# Altium integrated library NSC Amplifier.IntLib: 733 symbols (part 17 of 19)
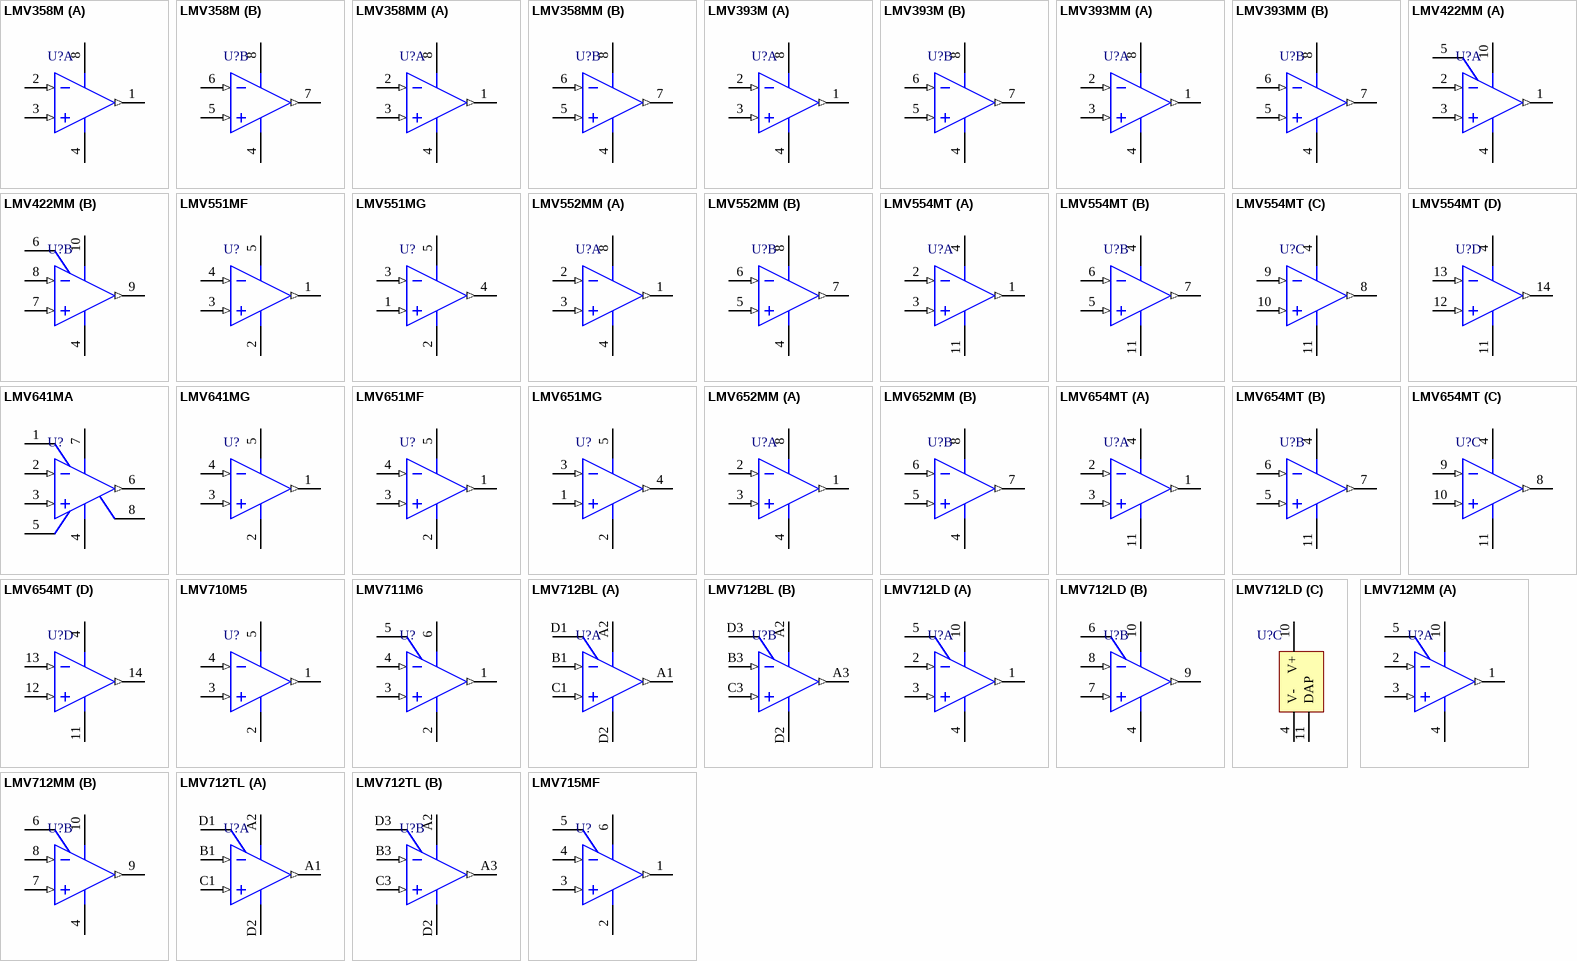
[diagram p55: symbols LMV358M to LMV715MF]

## LMV641MG
designator U?
10 MHz, 12V, Low Power Amplifier; PartNumber: LMV641MG; Manufacturer: National Semiconductor; CompType: Amplifiers; PackageTopMarking: A99*XTT; PowerWise: Y; Published: 4-Dec-2008; LatestRevisionDate: 13-Jan-2009; LatestRevisionNote: Sim Model Added.; DatasheetVersion: Sep-2007; PackageVersion: revD, Jun-2007; PackageReference: MAA05A; Publisher: Altium Limited; PackageDescription: Molded SC-70, 2 x 1.25 x .9mm, 5 Lead, 0.65mm Pitch; RoHS: Y; PinCount: 5; DigiKeyPartNumber: LMV641MGECT-ND; Code_JEITA: SC-88A; Code_JEDEC: MO-203-AA; Code_IPC: SOT353-5; ComponentLink1Description: LMV641 Datasheet; ComponentLink1URL: http://www.national.com/ds/LM/LMV641.pdf; ComponentLink2Description: LMV641 Web Page; ComponentLink2URL: http://www.national.com/pf/LM/LMV641.html; ComponentLink3Description: MAA05A Package Page; ComponentLink3URL: http://www.national.com/packaging/folders/maa05a.html
footprint MAA05A_N (SOT353, 5-Leads, Body 2x1.3mm, Pitch 0.65mm, Lead Span 2.1mm, IPC Medium Density)
footprint MAA05A_L (SOT353, 5-Leads, Body 2x1.3mm, Pitch 0.65mm, Lead Span 2.1mm, IPC High Density)
footprint MAA05A_M (SOT353, 5-Leads, Body 2x1.3mm, Pitch 0.65mm, Lead Span 2.1mm, IPC Low Density)
simulation model LMV641 (SUBCKT)
pins: 1 OUT (out), 2 V- (power), 3 IN+ (in), 4 IN- (in), 5 V+ (power)

## LMV651MF
designator U?
12 MHz, Low Voltage, Low Power Amplifier; PartNumber: LMV651MF; Manufacturer: National Semiconductor; CompType: Amplifiers; PackageTopMarking: AY2A*XTT; PowerWise: N; Published: 4-Dec-2008; LatestRevisionDate: 13-Jan-2009; LatestRevisionNote: Sim Model Added.; DatasheetVersion: Aug-2008; PackageVersion: revD, Aug-2008; PackageReference: MF05A; Publisher: Altium Limited; PackageDescription: Molded SOT-23, .115 x .063 x .040 in Body, 5 Lead, .0375 in Pitch; RoHS: Y; PinCount: 5; DigiKeyPartNumber: LMV651MFX-ND; Code_IPC: SOT23-5; ComponentLink1Description: LMV651 Datasheet; ComponentLink1URL: http://www.national.com/ds/LM/LMV651.pdf; ComponentLink2Description: LMV651 Web Page; ComponentLink2URL: http://www.national.com/pf/LM/LMV651.html; ComponentLink3Description: MF05A Package Page; ComponentLink3URL: http://www.national.com/packaging/folders/mf05a.html
footprint MF05A_N (SOT23, 5-Leads, Body 2.9x1.6mm, Pitch 0.95mm, Lead Span 2.8mm, IPC Medium Density)
footprint MF05A_L (SOT23, 5-Leads, Body 2.9x1.6mm, Pitch 0.95mm, Lead Span 2.8mm, IPC High Density)
footprint MF05A_M (SOT23, 5-Leads, Body 2.9x1.6mm, Pitch 0.95mm, Lead Span 2.8mm, IPC Low Density)
simulation model LMV651 (SUBCKT)
pins: 1 OUT (out), 2 V- (power), 3 IN+ (in), 4 IN- (in), 5 V+ (power)

## LMV651MG
designator U?
12 MHz, Low Voltage, Low Power Amplifier; PartNumber: LMV651MG; Manufacturer: National Semiconductor; CompType: Amplifiers; PackageTopMarking: A93*XTT; PowerWise: Y; Published: 4-Dec-2008; LatestRevisionDate: 13-Jan-2009; LatestRevisionNote: Sim Model Added.; DatasheetVersion: Aug-2008; PackageVersion: revD, Jun-2007; PackageReference: MAA05A; Publisher: Altium Limited; PackageDescription: Molded SC-70, 2 x 1.25 x .9mm, 5 Lead, 0.65mm Pitch; RoHS: O; PinCount: 5; DigiKeyPartNumber: LMV651MGCT-ND; Code_JEITA: SC-88A; Code_JEDEC: MO-203-AA; Code_IPC: SOT353-5; ComponentLink1Description: LMV651 Datasheet; ComponentLink1URL: http://www.national.com/ds/LM/LMV651.pdf; ComponentLink2Description: LMV651 Web Page; ComponentLink2URL: http://www.national.com/pf/LM/LMV651.html; ComponentLink3Description: MAA05A Package Page; ComponentLink3URL: http://www.national.com/packaging/folders/maa05a.html
footprint MAA05A_N (SOT353, 5-Leads, Body 2x1.3mm, Pitch 0.65mm, Lead Span 2.1mm, IPC Medium Density)
footprint MAA05A_L (SOT353, 5-Leads, Body 2x1.3mm, Pitch 0.65mm, Lead Span 2.1mm, IPC High Density)
footprint MAA05A_M (SOT353, 5-Leads, Body 2x1.3mm, Pitch 0.65mm, Lead Span 2.1mm, IPC Low Density)
simulation model LMV651 (SUBCKT)
pins: 1 IN+ (in), 2 V- (power), 3 IN- (in), 4 OUT (out), 5 V+ (power)

## LMV652MM
designator U?
12 MHz, Low Voltage, Low Power Amplifier; PartNumber: LMV652MM; Manufacturer: National Semiconductor; CompType: Amplifiers; PackageTopMarking: ZXTT*AB3A; PowerWise: Y; Published: 4-Dec-2008; LatestRevisionDate: 13-Jan-2009; LatestRevisionNote: Sim Model Added.; DatasheetVersion: Aug-2008; PackageVersion: revF, Apr-2008; PackageReference: MUA08A; Publisher: Altium Limited; PackageDescription: MINI SOIC, .118 x .118 x .034in, 8 Lead, .0256in Pitch; RoHS: Y; PinCount: 8; DigiKeyPartNumber: LMV652MMCT-ND; Code_JEDEC: MO-187-AA; ComponentLink1Description: LMV652 Datasheet; ComponentLink1URL: http://www.national.com/ds/LM/LMV652.pdf; ComponentLink2Description: LMV652 Web Page; ComponentLink2URL: http://www.national.com/pf/LM/LMV652.html; ComponentLink3Description: MUA08A Package Page; ComponentLink3URL: http://www.national.com/packaging/folders/mua08a.html
footprint MUA08A_N (TSOP, 8-Leads, Body 3x3mm, Pitch 0.65mm, IPC Medium Density)
footprint MUA08A_L (TSOP, 8-Leads, Body 3x3mm, Pitch 0.65mm, IPC High Density)
footprint MUA08A_M (TSOP, 8-Leads, Body 3x3mm, Pitch 0.65mm, IPC Low Density)
simulation model LMV652 (SUBCKT)
pins on every part: 4 V- (power), 8 V+ (power)
part A pins: 1 OUTA (out), 2 INA- (in), 3 INA+ (in)
part B pins: 5 INB+ (in), 6 INB- (in), 7 OUTB (out)

## LMV654MT
designator U?
12 MHz, Low Voltage, Low Power Amplifier; PartNumber: LMV654MT; Manufacturer: National Semiconductor; CompType: Amplifiers; PackageTopMarking: NSUZXYTT*LMV65*4MT; PowerWise: Y; Published: 4-Dec-2008; LatestRevisionDate: 13-Jan-2009; LatestRevisionNote: Sim Model Added.; DatasheetVersion: Aug-2008; PackageVersion: revD, Jun-2003; PackageReference: MTC14; Publisher: Altium Limited; PackageDescription: Molded TSSOP, JEDEC, 5 x 4.4 x 0.9mm Body, 14 Lead, 0.65mm Pitch; RoHS: O; PinCount: 14; DigiKeyPartNumber: LMV654MT-ND; Code_JEDEC: MO-153-AB-1; ComponentLink1Description: LMV654 Datasheet; ComponentLink1URL: http://www.national.com/ds/LM/LMV654.pdf; ComponentLink2Description: LMV654 Web Page; ComponentLink2URL: http://www.national.com/pf/LM/LMV654.html; ComponentLink3Description: MTC14 Package Page; ComponentLink3URL: http://www.national.com/packaging/folders/mtc14.html
footprint MTC14_N (TSOP, 14-Leads, Body 5x4.4mm, Pitch 0.65mm, IPC Medium Density)
footprint MTC14_L (TSOP, 14-Leads, Body 5x4.4mm, Pitch 0.65mm, IPC High Density)
footprint MTC14_M (TSOP, 14-Leads, Body 5x4.4mm, Pitch 0.65mm, IPC Low Density)
simulation model LMV654 (SUBCKT)
pins on every part: 4 V+ (power), 11 V- (power)
part A pins: 1 OUTA (out), 2 INA- (in), 3 INA+ (in)
part B pins: 5 INB+ (in), 6 INB- (in), 7 OUTB (out)
part C pins: 8 OUTC (out), 9 INC- (in), 10 INC+ (in)
part D pins: 12 IND+ (in), 13 IND- (in), 14 OUTD (out)

## LMV710M5
designator U?
Low Power, RRIO Operational Amplifiers with High Output Current Drive and Shutdown Option; PartNumber: LMV710M5; Manufacturer: National Semiconductor; PackageTopMarking: A48A*XTT; PowerWise: N; Published: 4-Dec-2008; LatestRevisionDate: 13-Jan-2009; LatestRevisionNote: Sim Model Added.; DatasheetVersion: Jun-2005; PackageVersion: revD, Aug-2008; PackageReference: MF05A; Publisher: Altium Limited; PackageDescription: Molded SOT-23, .115 x .063 x .040 in Body, 5 Lead, .0375 in Pitch; CompType: Amplifiers; RoHS: O; PinCount: 5; DigiKeyPartNumber: LMV710M5CT-ND; Code_IPC: SOT23-5; ComponentLink1Description: LMV710 Datasheet; ComponentLink1URL: http://www.national.com/ds/LM/LMV710.pdf; ComponentLink2Description: LMV710 Web Page; ComponentLink2URL: http://www.national.com/pf/LM/LMV710.html; ComponentLink3Description: MF05A Package Page; ComponentLink3URL: http://www.national.com/packaging/folders/mf05a.html
footprint MF05A_N (SOT23, 5-Leads, Body 2.9x1.6mm, Pitch 0.95mm, Lead Span 2.8mm, IPC Medium Density)
footprint MF05A_L (SOT23, 5-Leads, Body 2.9x1.6mm, Pitch 0.95mm, Lead Span 2.8mm, IPC High Density)
footprint MF05A_M (SOT23, 5-Leads, Body 2.9x1.6mm, Pitch 0.95mm, Lead Span 2.8mm, IPC Low Density)
simulation model LMV710 (SUBCKT)
pins: 1 OUT (out), 2 V- (power), 3 IN+ (in), 4 IN- (in), 5 V+ (power)

## LMV711M6
designator U?
Low Power, RRIO Operational Amplifiers with High Output Current Drive and Shutdown Option; PartNumber: LMV711M6; Manufacturer: National Semiconductor; PackageTopMarking: A47A*XTT; PowerWise: N; Published: 4-Dec-2008; LatestRevisionDate: 13-Jan-2009; LatestRevisionNote: Sim Model Added.; DatasheetVersion: Jun-2005; PackageVersion: revC, Sep-2005; PackageReference: MF06A; Publisher: Altium Limited; PackageDescription: Molded SOT-23, .115 x .063 x .040in Body, 6 Lead, .0375in in Pitch; CompType: Amplifiers; RoHS: O; PinCount: 6; DigiKeyPartNumber: LMV711M6CT-ND; Code_JEDEC: MO-178-AB; Code_IPC: SOT26A-6; ComponentLink1Description: LMV711 Datasheet; ComponentLink1URL: http://www.national.com/ds/LM/LMV711.pdf; ComponentLink2Description: LMV711 Web Page; ComponentLink2URL: http://www.national.com/pf/LM/LMV711.html; ComponentLink3Description: MF06A Package Page; ComponentLink3URL: http://www.national.com/packaging/folders/mf06a.html
footprint MF06A_N (SOT23, 6-Leads, Body 2.9x1.6mm, Pitch 0.95mm, Lead Span 2.8mm, IPC Medium Density)
footprint MF06A_L (SOT23, 6-Leads, Body 2.9x1.6mm, Pitch 0.95mm, Lead Span 2.8mm, IPC High Density)
footprint MF06A_M (SOT23, 6-Leads, Body 2.9x1.6mm, Pitch 0.95mm, Lead Span 2.8mm, IPC Low Density)
simulation model LMV711 (SUBCKT)
pins: 1 OUT (out), 2 V- (power), 3 IN+ (in), 4 IN- (in), 5 SHDN, 6 V+ (power)

## LMV712BL
designator U?
Low Power, Low Noise, High Output, RRIO Dual Operational Amplifier with Independent Shutdown; PartNumber: LMV712BL; Manufacturer: National Semiconductor; CompType: Amplifiers; PackageTopMarking: XYTT*I A76A; Published: 4-Dec-2008; LatestRevisionDate: 13-Jan-2009; LatestRevisionNote: Sim Model Added.; DatasheetVersion: Apr-2008; PackageVersion: revB, Feb-2002; PackageReference: BLP10AAB; Publisher: Altium Limited; PackageDescription: Micro SMD, 10 Bump (Large), Peripheral, 0.5mm Pitch; RoHS: N; PinCount: 10; DigiKeyPartNumber: LMV712BLCT-ND; Code_JEDEC: MO-211-BD; ComponentLink1Description: LMV712 Datasheet; ComponentLink1URL: http://www.national.com/ds/LM/LMV712.pdf; ComponentLink2Description: LMV712 Web Page; ComponentLink2URL: http://www.national.com/pf/LM/LMV712.html; ComponentLink3Description: BLP10AAB Package Page; ComponentLink3URL: http://www.national.com/packaging/folders/blp10aab.html
footprint BLP10AAB (Micro SMD, 10-Leads, Body 2.0x1.52mm, Pitch 0.5mm, NSC Recommended)
simulation model LMV711 (SUBCKT)
pins on every part: A2 V+ (power), D2 V- (power)
part A pins: A1 OUTA (out), B1 INA- (in), C1 INA+ (in), D1 SDA
part B pins: A3 OUTB (out), B3 INB- (in), C3 INB+ (in), D3 SDB

## LMV712LD
designator U?
Low Power, Low Noise, High Output, RRIO Dual Operational Amplifier with Independent Shutdown; PartNumber: LMV712LD; Manufacturer: National Semiconductor; CompType: Amplifiers; PackageTopMarking: ZXYTT*A62; PowerWise: N; Published: 4-Dec-2008; LatestRevisionDate: 13-Jan-2009; LatestRevisionNote: Sim Model Added.; DatasheetVersion: Apr-2008; PackageVersion: revB, Jan-2003; PackageReference: LDA10A; Publisher: Altium Limited; PackageDescription: LLP, Plastic, Dual, 3 x 3 x 0.75mm Body, 10 Lead, 0.5mm Pitch; RoHS: Y; PinCount: 10; DigiKeyPartNumber: LMV712LDCT-ND; ComponentLink1Description: LMV712 Datasheet; ComponentLink1URL: http://www.national.com/ds/LM/LMV712.pdf; ComponentLink2Description: LMV712 Web Page; ComponentLink2URL: http://www.national.com/pf/LM/LMV712.html; ComponentLink3Description: LDA10A Package Page; ComponentLink3URL: http://www.national.com/packaging/folders/lda10a.html
footprint LDA10A (PSON, 10-Leads, Body 3x3mm, Pitch 0.5mm, NSC Recommended)
simulation model LMV711 (SUBCKT)
pins on every part: 4 V- (power), 10 V+ (power)
part A pins: 1 OUTA (out), 2 INA- (in), 3 INA+ (in), 5 SDA
part B pins: 6 SDB, 7 INB+ (in), 8 INB- (in), 9 OUTB (out)
part C pins: 11 DAP

## LMV712MM
designator U?
Low Power, Low Noise, High Output, RRIO Dual Operational Amplifier with Independent Shutdown; PartNumber: LMV712MM; Manufacturer: National Semiconductor; CompType: Amplifiers; PackageTopMarking: ZXTT*A61; PowerWise: N; Published: 4-Dec-2008; LatestRevisionDate: 13-Jan-2009; LatestRevisionNote: Sim Model Added.; DatasheetVersion: Apr-2008; PackageVersion: revB, Jul-2003; PackageReference: MUB10A; Publisher: Altium Limited; PackageDescription: Mini-SO, Molded, .118 x .118 x .034in Body, 10 Lead, .0197in Pitch; RoHS: O; PinCount: 10; DigiKeyPartNumber: LMV712MMCT-ND; Code_JEDEC: MO-187-BA; ComponentLink1Description: LMV712 Datasheet; ComponentLink1URL: http://www.national.com/ds/LM/LMV712.pdf; ComponentLink2Description: LMV712 Web Page; ComponentLink2URL: http://www.national.com/pf/LM/LMV712.html; ComponentLink3Description: MUB10A Package Page; ComponentLink3URL: http://www.national.com/packaging/folders/mub10a.html
footprint MUB10A_N (TSSOP, 10-Leads, Body 3x3mm, Pitch 0.5mm, IPC Medium Density)
footprint MUB10A_L (TSSOP, 10-Leads, Body 3x3mm, Pitch 0.5mm, IPC High Density)
footprint MUB10A_M (TSSOP, 10-Leads, Body 3x3mm, Pitch 0.5mm, IPC Low Density)
simulation model LMV711 (SUBCKT)
pins on every part: 4 V- (power), 10 V+ (power)
part A pins: 1 OUTA (out), 2 INA- (in), 3 INA+ (in), 5 SDA
part B pins: 6 SDB, 7 INB+ (in), 8 INB- (in), 9 OUTB (out)

## LMV712TL
designator U?
Low Power, Low Noise, High Output, RRIO Dual Operational Amplifier with Independent Shutdown; PartNumber: LMV712TL; Manufacturer: National Semiconductor; CompType: Amplifiers; PackageTopMarking: XYTT*I AU2A; PowerWise: N; Published: 4-Dec-2008; LatestRevisionDate: 13-Jan-2009; LatestRevisionNote: Sim Model Added.; DatasheetVersion: Apr-2008; PackageVersion: revD, Mar-2004; PackageReference: TLP10BBA; Publisher: Altium Limited; PackageDescription: Thin Micro SMD, 10 Bump (Large), 0.5mm Pitch; RoHS: Y; PinCount: 10; DigiKeyPartNumber: LMV712TLCT-ND; Code_JEDEC: MO-211-BD; ComponentLink1Description: LMV712 Datasheet; ComponentLink1URL: http://www.national.com/ds/LM/LMV712.pdf; ComponentLink2Description: LMV712 Web Page; ComponentLink2URL: http://www.national.com/pf/LM/LMV712.html; ComponentLink3Description: TLP10BBA Package Page; ComponentLink3URL: http://www.national.com/packaging/folders/tlp10bba.html
footprint TLP10BBA (Micro SMD, 10-Leads, Body 2.02x1.54mm, Pitch 0.5mm, NSC Recommended)
simulation model LMV711 (SUBCKT)
pins on every part: A2 V+ (power), D2 V- (power)
part A pins: A1 OUTA (out), B1 INA- (in), C1 INA+ (in), D1 SDA
part B pins: A3 OUTB (out), B3 INB- (in), C3 INB+ (in), D3 SDB

## LMV715MF
designator U?
Low Power, RRIO Operational Amplifiers with High Output Current Drive and Shutdown Option; PartNumber: LMV715MF; Manufacturer: National Semiconductor; PackageTopMarking: A75A*XTT; Published: 4-Dec-2008; DatasheetVersion: Jun-2005; PackageVersion: revC, Sep-2005; PackageReference: MF06A; Publisher: Altium Limited; PackageDescription: Molded SOT-23, .115 x .063 x .040in Body, 6 Lead, .0375in in Pitch; CompType: Amplifiers; RoHS: Y; PinCount: 6; DigiKeyPartNumber: LMV715MFCT-ND; Code_JEDEC: MO-178-AB; Code_IPC: SOT26A-6; ComponentLink1Description: LMV715 Datasheet; ComponentLink1URL: http://www.national.com/ds/LM/LMV715.pdf; ComponentLink2Description: LMV715 Web Page; ComponentLink2URL: http://www.national.com/pf/LM/LMV715.html; ComponentLink3Description: MF06A Package Page; ComponentLink3URL: http://www.national.com/packaging/folders/mf06a.html
footprint MF06A_N (SOT23, 6-Leads, Body 2.9x1.6mm, Pitch 0.95mm, Lead Span 2.8mm, IPC Medium Density)
footprint MF06A_L (SOT23, 6-Leads, Body 2.9x1.6mm, Pitch 0.95mm, Lead Span 2.8mm, IPC High Density)
footprint MF06A_M (SOT23, 6-Leads, Body 2.9x1.6mm, Pitch 0.95mm, Lead Span 2.8mm, IPC Low Density)
pins: 1 OUT (out), 2 V- (power), 3 IN+ (in), 4 IN- (in), 5 SHDN, 6 V+ (power)

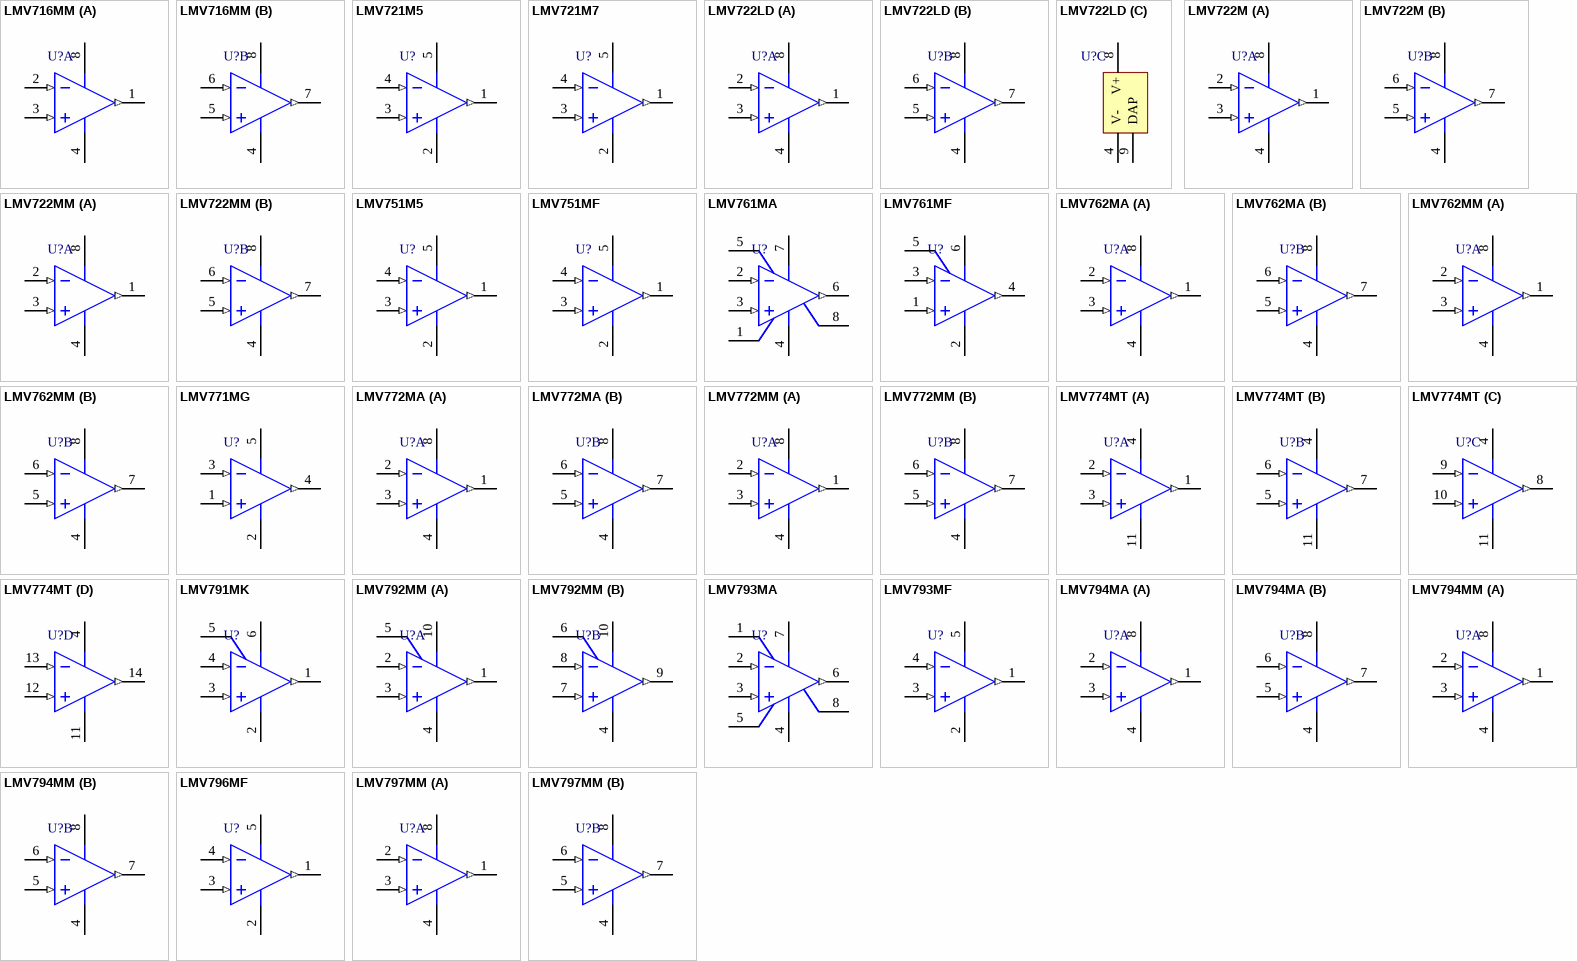
[diagram p35: symbols LMV716MM to LMV797MM]

## LMV716MM
designator U?
5 MHz, Low Noise Dual Operational Amplifiers, with CMOS Input; PartNumber: LMV716MM; Manufacturer: National Semiconductor; PackageTopMarking: ZXTT*AR3A; PowerWise: N; Published: 4-Dec-2008; LatestRevisionDate: 13-Jan-2009; LatestRevisionNote: Sim Model Added.; DatasheetVersion: Sep-2006; PackageVersion: revF, Apr-2008; PackageReference: MUA08A; Publisher: Altium Limited; PackageDescription: MINI SOIC, .118 x .118 x .034in, 8 Lead, .0256in Pitch; CompType: Amplifiers; RoHS: Y; PinCount: 8; DigiKeyPartNumber: LMV716MMCT-ND; Code_JEDEC: MO-187-AA; ComponentLink1Description: LMV716 Datasheet; ComponentLink1URL: http://www.national.com/ds/LM/LMV716.pdf; ComponentLink2Description: LMV716 Web Page; ComponentLink2URL: http://www.national.com/pf/LM/LMV716.html; ComponentLink3Description: MUA08A Package Page; ComponentLink3URL: http://www.national.com/packaging/folders/mua08a.html
footprint MUA08A_N (TSOP, 8-Leads, Body 3x3mm, Pitch 0.65mm, IPC Medium Density)
footprint MUA08A_L (TSOP, 8-Leads, Body 3x3mm, Pitch 0.65mm, IPC High Density)
footprint MUA08A_M (TSOP, 8-Leads, Body 3x3mm, Pitch 0.65mm, IPC Low Density)
simulation model LMV716 (SUBCKT)
pins on every part: 4 V- (power), 8 V+ (power)
part A pins: 1 OUTA (out), 2 INA- (in), 3 INA+ (in)
part B pins: 5 INB+ (in), 6 INB- (in), 7 OUTB (out)

## LMV721M5
designator U?
10MHz, Low Noise, Low Voltage, and Low Power Operational Amplifier; PartNumber: LMV721M5; Manufacturer: National Semiconductor; CompType: Amplifiers; PackageTopMarking: A30A*XTT; PowerWise: Y; Published: 4-Dec-2008; LatestRevisionDate: 13-Jan-2009; LatestRevisionNote: Sim Model Added.; DatasheetVersion: Jul-2008; PackageVersion: revD, Aug-2008; PackageReference: MF05A; Publisher: Altium Limited; PackageDescription: Molded SOT-23, .115 x .063 x .040 in Body, 5 Lead, .0375 in Pitch; RoHS: O; PinCount: 5; DigiKeyPartNumber: LMV721M5CT-ND; Code_IPC: SOT23-5; ComponentLink1Description: LMV721 Datasheet; ComponentLink1URL: http://www.national.com/ds/LM/LMV721.pdf; ComponentLink2Description: LMV721 Web Page; ComponentLink2URL: http://www.national.com/pf/LM/LMV721.html; ComponentLink3Description: MF05A Package Page; ComponentLink3URL: http://www.national.com/packaging/folders/mf05a.html
footprint MF05A_N (SOT23, 5-Leads, Body 2.9x1.6mm, Pitch 0.95mm, Lead Span 2.8mm, IPC Medium Density)
footprint MF05A_L (SOT23, 5-Leads, Body 2.9x1.6mm, Pitch 0.95mm, Lead Span 2.8mm, IPC High Density)
footprint MF05A_M (SOT23, 5-Leads, Body 2.9x1.6mm, Pitch 0.95mm, Lead Span 2.8mm, IPC Low Density)
simulation model LMV721 (SUBCKT)
pins: 1 OUT (out), 2 V- (power), 3 IN+ (in), 4 IN- (in), 5 V+ (power)

## LMV721M7
designator U?
10MHz, Low Noise, Low Voltage, and Low Power Operational Amplifier; PartNumber: LMV721M7; Manufacturer: National Semiconductor; CompType: Amplifiers; PackageTopMarking: A20*XTT; PowerWise: Y; Published: 4-Dec-2008; LatestRevisionDate: 13-Jan-2009; LatestRevisionNote: Sim Model Added.; DatasheetVersion: Jul-2008; PackageVersion: revD, Jun-2007; PackageReference: MAA05A; Publisher: Altium Limited; PackageDescription: Molded SC-70, 2 x 1.25 x .9mm, 5 Lead, 0.65mm Pitch; RoHS: O; PinCount: 5; DigiKeyPartNumber: LMV721M7CT-ND; Code_JEITA: SC-88A; Code_JEDEC: MO-203-AA; Code_IPC: SOT353-5; ComponentLink1Description: LMV721 Datasheet; ComponentLink1URL: http://www.national.com/ds/LM/LMV721.pdf; ComponentLink2Description: LMV721 Web Page; ComponentLink2URL: http://www.national.com/pf/LM/LMV721.html; ComponentLink3Description: MAA05A Package Page; ComponentLink3URL: http://www.national.com/packaging/folders/maa05a.html
footprint MAA05A_N (SOT353, 5-Leads, Body 2x1.3mm, Pitch 0.65mm, Lead Span 2.1mm, IPC Medium Density)
footprint MAA05A_L (SOT353, 5-Leads, Body 2x1.3mm, Pitch 0.65mm, Lead Span 2.1mm, IPC High Density)
footprint MAA05A_M (SOT353, 5-Leads, Body 2x1.3mm, Pitch 0.65mm, Lead Span 2.1mm, IPC Low Density)
simulation model LMV721 (SUBCKT)
pins: 1 OUT (out), 2 V- (power), 3 IN+ (in), 4 IN- (in), 5 V+ (power)

## LMV722LD
designator U?
10MHz, Low Noise, Low Voltage, and Low Power Operational Amplifier; PartNumber: LMV722LD; Manufacturer: National Semiconductor; CompType: Amplifiers; PackageTopMarking: XYTT*L22; Published: 4-Dec-2008; DatasheetVersion: Jul-2008; PackageVersion: revB, Jun-2003; PackageReference: LDA08C; Publisher: Altium Limited; PackageDescription: LLP, Plastic, Dual, 2.5 x 3 x 0.75mm, 8 Lead, 0.5mm Pitch; RoHS: O; PinCount: 8; DigiKeyPartNumber: LMV722LDCT-ND; Code_JEDEC: MO-229-WDED; ComponentLink1Description: LMV722 Datasheet; ComponentLink1URL: http://www.national.com/ds/LM/LMV722.pdf; ComponentLink2Description: LMV722 Web Page; ComponentLink2URL: http://www.national.com/pf/LM/LMV722.html; ComponentLink3Description: LDA08C Package Page; ComponentLink3URL: http://www.national.com/packaging/folders/lda08c.html
footprint LDA08C (PSON, 8-Leads, Body 2.5x3mm, Pitch 0.5mm, NSC Recommended)
pins on every part: 4 V- (power), 8 V+ (power)
part A pins: 1 OUTA (out), 2 INA- (in), 3 INA+ (in)
part B pins: 5 INB+ (in), 6 INB- (in), 7 OUTB (out)
part C pins: 9 DAP

## LMV722M
designator U?
10MHz, Low Noise, Low Voltage, and Low Power Operational Amplifier; PartNumber: LMV722M; Manufacturer: National Semiconductor; CompType: Amplifiers; PackageTopMarking: NSZXTT*LMV*722M; PowerWise: Y; Published: 4-Dec-2008; LatestRevisionDate: 13-Jan-2009; LatestRevisionNote: Sim Model Added.; DatasheetVersion: Jul-2008; PackageVersion: revL, Sep-2006; PackageReference: M08A; Publisher: Altium Limited; PackageDescription: SOIC Narrow, 4.9 x 3.9 x 1.45mm, 8 Lead, 1.27mm Pitch; RoHS: O; PinCount: 8; DigiKeyPartNumber: LMV722MMCT-ND; Code_JEDEC: MS-012-AA; Code_IPC: SOIC127P600-8; ComponentLink1Description: LMV722 Datasheet; ComponentLink1URL: http://www.national.com/ds/LM/LMV722.pdf; ComponentLink2Description: LMV722 Web Page; ComponentLink2URL: http://www.national.com/pf/LM/LMV722.html; ComponentLink3Description: M08A Package Page; ComponentLink3URL: http://www.national.com/packaging/folders/m08a.html
footprint M08A_N (SOIC, 8-Leads, Body 4.9x3.9mm, Pitch 1.27mm, IPC Medium Density)
footprint M08A_L (SOIC, 8-Leads, Body 4.9x3.9mm, Pitch 1.27mm, IPC High Density)
footprint M08A_M (SOIC, 8-Leads, Body 4.9x3.9mm, Pitch 1.27mm, IPC Low Density)
simulation model LMV721 (SUBCKT)
pins on every part: 4 V- (power), 8 V+ (power)
part A pins: 1 OUTA (out), 2 INA- (in), 3 INA+ (in)
part B pins: 5 INB+ (in), 6 INB- (in), 7 OUTB (out)

## LMV722MM
designator U?
10MHz, Low Noise, Low Voltage, and Low Power Operational Amplifier; PartNumber: LMV722MM; Manufacturer: National Semiconductor; CompType: Amplifiers; PackageTopMarking: ZXTT*V722; PowerWise: Y; Published: 4-Dec-2008; LatestRevisionDate: 13-Jan-2009; LatestRevisionNote: Sim Model Added.; DatasheetVersion: Jul-2008; PackageVersion: revF, Apr-2008; PackageReference: MUA08A; Publisher: Altium Limited; PackageDescription: MINI SOIC, .118 x .118 x .034in, 8 Lead, .0256in Pitch; RoHS: Y; PinCount: 8; DigiKeyPartNumber: LMV722MMCT-ND; Code_JEDEC: MO-187-AA; ComponentLink1Description: LMV722 Datasheet; ComponentLink1URL: http://www.national.com/ds/LM/LMV722.pdf; ComponentLink2Description: LMV722 Web Page; ComponentLink2URL: http://www.national.com/pf/LM/LMV722.html; ComponentLink3Description: MUA08A Package Page; ComponentLink3URL: http://www.national.com/packaging/folders/mua08a.html
footprint MUA08A_N (TSOP, 8-Leads, Body 3x3mm, Pitch 0.65mm, IPC Medium Density)
footprint MUA08A_L (TSOP, 8-Leads, Body 3x3mm, Pitch 0.65mm, IPC High Density)
footprint MUA08A_M (TSOP, 8-Leads, Body 3x3mm, Pitch 0.65mm, IPC Low Density)
simulation model LMV721 (SUBCKT)
pins on every part: 4 V- (power), 8 V+ (power)
part A pins: 1 OUTA (out), 2 INA- (in), 3 INA+ (in)
part B pins: 5 INB+ (in), 6 INB- (in), 7 OUTB (out)

## LMV751M5
designator U?
Low Noise, Low Vos, Single Op Amp; PartNumber: LMV751M5; Manufacturer: National Semiconductor; CompType: Amplifiers; PackageTopMarking: A32A*XTT; PowerWise: Y; Published: 29-May-2009; DatasheetVersion: Jul-2002; PackageVersion: revD, Aug-2008; PackageReference: MF05A; Publisher: Altium Limited; PackageDescription: Molded SOT-23, .115 x .063 x .040 in Body, 5 Lead, .0375 in Pitch; RoHS: O; PinCount: 5; DigiKeyPartNumber: LMV751M5CT-ND; ComponentLink1Description: LMV751 Datasheet; ComponentLink1URL: http://www.national.com/ds/LM/LMV751.pdf; ComponentLink2Description: LMV751 Web Page; ComponentLink2URL: http://www.national.com/mpf/LM/LMV751.html; ComponentLink3Description: MF05A Package Page; ComponentLink3URL: http://www.national.com/packaging/folders/mf05a.html
footprint MF05A_N (SOT23, 5-Leads, Body 2.9x1.6mm, Pitch 0.95mm, Lead Span 2.8mm, IPC Medium Density)
footprint MF05A_L (SOT23, 5-Leads, Body 2.9x1.6mm, Pitch 0.95mm, Lead Span 2.8mm, IPC High Density)
footprint MF05A_M (SOT23, 5-Leads, Body 2.9x1.6mm, Pitch 0.95mm, Lead Span 2.8mm, IPC Low Density)
simulation model LMV751 (SUBCKT)
pins: 1 OUT (out), 2 V- (power), 3 IN+ (in), 4 IN- (in), 5 V+ (power)

## LMV751MF
designator U?
Low Noise, Low Vos, Single Op Amp; PartNumber: LMV751M5; Manufacturer: National Semiconductor; CompType: Amplifiers; PackageTopMarking: A32A*XTT; Published: 4-Dec-2008; LatestRevisionDate: 13-Jan-2009; LatestRevisionNote: Sim Model Added.; DatasheetVersion: Jul-2002; PackageVersion: revD, Aug-2008; PackageReference: MF05A; Publisher: Altium Limited; PackageDescription: Molded SOT-23, .115 x .063 x .040 in Body, 5 Lead, .0375 in Pitch; RoHS: O; PinCount: 5; DigiKeyPartNumber: LMV751M5CT-ND; Code_IPC: SOT23-5; ComponentLink1Description: LMV751 Datasheet; ComponentLink1URL: http://www.national.com/ds/LM/LMV751.pdf; ComponentLink2Description: LMV751 Web Page; ComponentLink2URL: http://www.national.com/mpf/LM/LMV751.html; ComponentLink3Description: MF05A Package Page; ComponentLink3URL: http://www.national.com/packaging/folders/mf05a.html
footprint MF05A_N (SOT23, 5-Leads, Body 2.9x1.6mm, Pitch 0.95mm, Lead Span 2.8mm, IPC Medium Density)
footprint MF05A_L (SOT23, 5-Leads, Body 2.9x1.6mm, Pitch 0.95mm, Lead Span 2.8mm, IPC High Density)
footprint MF05A_M (SOT23, 5-Leads, Body 2.9x1.6mm, Pitch 0.95mm, Lead Span 2.8mm, IPC Low Density)
simulation model LMV751 (SUBCKT)
pins: 1 OUT (out), 2 V- (power), 3 IN+ (in), 4 IN- (in), 5 V+ (power)

## LMV761MA
designator U?
Low Voltage, Precision Comparator with Push-Pull Output; PartNumber: LMV761MA; Manufacturer: National Semiconductor; CompType: Amplifiers; PackageTopMarking: NSZXTT*LMV76*1MA; PowerWise: N; Published: 4-Dec-2008; DatasheetVersion: Jul-2002; PackageVersion: revL, Sep-2006; PackageReference: M08A; Publisher: Altium Limited; PackageDescription: SOIC Narrow, 4.9 x 3.9 x 1.45mm, 8 Lead, 1.27mm Pitch; RoHS: O; PinCount: 8; DigiKeyPartNumber: LMV761MA-ND; Code_JEDEC: MS-012-AA; Code_IPC: SOIC127P600-8; ComponentLink1Description: LMV761 Datasheet; ComponentLink1URL: http://www.national.com/ds/LM/LMV761.pdf; ComponentLink2Description: LMV761 Web Page; ComponentLink2URL: http://www.national.com/pf/LM/LMV761.html; ComponentLink3Description: M08A Package Page; ComponentLink3URL: http://www.national.com/packaging/folders/m08a.html
footprint M08A_N (SOIC, 8-Leads, Body 4.9x3.9mm, Pitch 1.27mm, IPC Medium Density)
footprint M08A_L (SOIC, 8-Leads, Body 4.9x3.9mm, Pitch 1.27mm, IPC High Density)
footprint M08A_M (SOIC, 8-Leads, Body 4.9x3.9mm, Pitch 1.27mm, IPC Low Density)
pins: 1 NC, 2 IN- (in), 3 IN+ (in), 4 V- (power), 5 ~{SD}, 6 OUT (out), 7 V+ (power), 8 NC

## LMV761MF
designator U?
Low Voltage, Precision Comparator with Push-Pull Output; PartNumber: LMV761MF; Manufacturer: National Semiconductor; CompType: Amplifiers; PackageTopMarking: C22A*XTT; PowerWise: N; Published: 4-Dec-2008; DatasheetVersion: Jul-2002; PackageVersion: revC, Sep-2005; PackageReference: MF06A; Publisher: Altium Limited; PackageDescription: Molded SOT-23, .115 x .063 x .040in Body, 6 Lead, .0375in in Pitch; RoHS: O; PinCount: 6; DigiKeyPartNumber: LMV761MFCT-ND; Code_JEDEC: MO-178-AB; Code_IPC: SOT26A-6; ComponentLink1Description: LMV761 Datasheet; ComponentLink1URL: http://www.national.com/ds/LM/LMV761.pdf; ComponentLink2Description: LMV761 Web Page; ComponentLink2URL: http://www.national.com/pf/LM/LMV761.html; ComponentLink3Description: MF06A Package Page; ComponentLink3URL: http://www.national.com/packaging/folders/mf06a.html
footprint MF06A_N (SOT23, 6-Leads, Body 2.9x1.6mm, Pitch 0.95mm, Lead Span 2.8mm, IPC Medium Density)
footprint MF06A_L (SOT23, 6-Leads, Body 2.9x1.6mm, Pitch 0.95mm, Lead Span 2.8mm, IPC High Density)
footprint MF06A_M (SOT23, 6-Leads, Body 2.9x1.6mm, Pitch 0.95mm, Lead Span 2.8mm, IPC Low Density)
pins: 1 IN+ (in), 2 V- (power), 3 IN- (in), 4 OUT (out), 5 ~{SD}, 6 V+ (power)

## LMV762MA
designator U?
Low Voltage, Precision Comparator with Push-Pull Output; PartNumber: LMV762MA; Manufacturer: National Semiconductor; CompType: Amplifiers; PackageTopMarking: NSZXTT*LMV7*62MA; PowerWise: N; Published: 4-Dec-2008; DatasheetVersion: Jul-2002; PackageVersion: revL, Sep-2006; PackageReference: M08A; Publisher: Altium Limited; PackageDescription: SOIC Narrow, 4.9 x 3.9 x 1.45mm, 8 Lead, 1.27mm Pitch; RoHS: O; PinCount: 8; DigiKeyPartNumber: LMV762MA-ND; Code_JEDEC: MS-012-AA; Code_IPC: SOIC127P600-8; ComponentLink1Description: LMV762 Datasheet; ComponentLink1URL: http://www.national.com/ds/LM/LMV762.pdf; ComponentLink2Description: LMV762 Web Page; ComponentLink2URL: http://www.national.com/pf/LM/LMV762.html; ComponentLink3Description: M08A Package Page; ComponentLink3URL: http://www.national.com/packaging/folders/m08a.html
footprint M08A_N (SOIC, 8-Leads, Body 4.9x3.9mm, Pitch 1.27mm, IPC Medium Density)
footprint M08A_L (SOIC, 8-Leads, Body 4.9x3.9mm, Pitch 1.27mm, IPC High Density)
footprint M08A_M (SOIC, 8-Leads, Body 4.9x3.9mm, Pitch 1.27mm, IPC Low Density)
pins on every part: 4 V- (power), 8 V+ (power)
part A pins: 1 OUTA (out), 2 INA- (in), 3 INA+ (in)
part B pins: 5 INB+ (in), 6 INB- (in), 7 OUTB (out)

## LMV762MM
designator U?
Low Voltage, Precision Comparator with Push-Pull Output; PartNumber: LMV762MM; Manufacturer: National Semiconductor; CompType: Amplifiers; PackageTopMarking: ZXTT*C23A; PowerWise: N; Published: 4-Dec-2008; DatasheetVersion: Jul-2002; PackageVersion: revF, Apr-2008; PackageReference: MUA08A; Publisher: Altium Limited; PackageDescription: MINI SOIC, .118 x .118 x .034in, 8 Lead, .0256in Pitch; RoHS: O; PinCount: 8; DigiKeyPartNumber: LMV762MMCT-ND; Code_JEDEC: MO-187-AA; ComponentLink1Description: LMV762 Datasheet; ComponentLink1URL: http://www.national.com/ds/LM/LMV762.pdf; ComponentLink2Description: LMV762 Web Page; ComponentLink2URL: http://www.national.com/pf/LM/LMV762.html; ComponentLink3Description: MUA08A Package Page; ComponentLink3URL: http://www.national.com/packaging/folders/mua08a.html
footprint MUA08A_N (TSOP, 8-Leads, Body 3x3mm, Pitch 0.65mm, IPC Medium Density)
footprint MUA08A_L (TSOP, 8-Leads, Body 3x3mm, Pitch 0.65mm, IPC High Density)
footprint MUA08A_M (TSOP, 8-Leads, Body 3x3mm, Pitch 0.65mm, IPC Low Density)
pins on every part: 4 V- (power), 8 V+ (power)
part A pins: 1 OUTA (out), 2 INA- (in), 3 INA+ (in)
part B pins: 5 INB+ (in), 6 INB- (in), 7 OUTB (out)

## LMV771MG
designator U?
Single/Dual/Quad, Low Offset, Low Noise, RRO Operational Amplifiers; PartNumber: LMV771MG; Manufacturer: National Semiconductor; PackageTopMarking: A75*XTT; PowerWise: N; Published: 4-Dec-2008; LatestRevisionDate: 13-Jan-2009; LatestRevisionNote: Sim Model Added.; DatasheetVersion: Aug-2008; PackageVersion: revD, Jun-2007; PackageReference: MAA05A; Publisher: Altium Limited; PackageDescription: Molded SC-70, 2 x 1.25 x .9mm, 5 Lead, 0.65mm Pitch; CompType: Amplifiers; RoHS: O; PinCount: 5; DigiKeyPartNumber: LMV771MGCT-ND; Code_JEITA: SC-88A; Code_JEDEC: MO-203-AA; Code_IPC: SOT353-5; ComponentLink1Description: LMV771 Datasheet; ComponentLink1URL: http://www.national.com/ds/LM/LMV771.pdf; ComponentLink2Description: LMV771 Web Page; ComponentLink2URL: http://www.national.com/pf/LM/LMV771.html; ComponentLink3Description: MAA05A Package Page; ComponentLink3URL: http://www.national.com/packaging/folders/maa05a.html
footprint MAA05A_N (SOT353, 5-Leads, Body 2x1.3mm, Pitch 0.65mm, Lead Span 2.1mm, IPC Medium Density)
footprint MAA05A_L (SOT353, 5-Leads, Body 2x1.3mm, Pitch 0.65mm, Lead Span 2.1mm, IPC High Density)
footprint MAA05A_M (SOT353, 5-Leads, Body 2x1.3mm, Pitch 0.65mm, Lead Span 2.1mm, IPC Low Density)
simulation model LMV771 (SUBCKT)
pins: 1 IN+ (in), 2 GND (power), 3 IN- (in), 4 OUT (out), 5 V+ (power)

## LMV772MA
designator U?
Single/Dual/Quad, Low Offset, Low Noise, RRO Operational Amplifiers; PartNumber: LMV772MA; Manufacturer: National Semiconductor; PackageTopMarking: NSZXTT*LMV7*72MA; PowerWise: N; Published: 4-Dec-2008; LatestRevisionDate: 13-Jan-2009; LatestRevisionNote: Sim Model Added.; DatasheetVersion: Aug-2008; PackageVersion: revL, Sep-2006; PackageReference: M08A; Publisher: Altium Limited; PackageDescription: SOIC Narrow, 4.9 x 3.9 x 1.45mm, 8 Lead, 1.27mm Pitch; CompType: Amplifiers; RoHS: Y; PinCount: 8; DigiKeyPartNumber: LMV772MA-ND; Code_JEDEC: MS-012-AA; Code_IPC: SOIC127P600-8; ComponentLink1Description: LMV772 Datasheet; ComponentLink1URL: http://www.national.com/ds/LM/LMV772.pdf; ComponentLink2Description: LMV772 Web Page; ComponentLink2URL: http://www.national.com/pf/LM/LMV772.html; ComponentLink3Description: M08A Package Page; ComponentLink3URL: http://www.national.com/packaging/folders/m08a.html
footprint M08A_N (SOIC, 8-Leads, Body 4.9x3.9mm, Pitch 1.27mm, IPC Medium Density)
footprint M08A_L (SOIC, 8-Leads, Body 4.9x3.9mm, Pitch 1.27mm, IPC High Density)
footprint M08A_M (SOIC, 8-Leads, Body 4.9x3.9mm, Pitch 1.27mm, IPC Low Density)
simulation model LMV771 (SUBCKT)
pins on every part: 4 V- (power), 8 V+ (power)
part A pins: 1 OUTA (out), 2 INA- (in), 3 INA+ (in)
part B pins: 5 INB+ (in), 6 INB- (in), 7 OUTB (out)

## LMV772MM
designator U?
Single/Dual/Quad, Low Offset, Low Noise, RRO Operational Amplifiers; PartNumber: LMV772MM; Manufacturer: National Semiconductor; PackageTopMarking: ZXTT*A91A; PowerWise: N; Published: 4-Dec-2008; LatestRevisionDate: 13-Jan-2009; LatestRevisionNote: Sim Model Added.; DatasheetVersion: Aug-2008; PackageVersion: revF, Apr-2008; PackageReference: MUA08A; Publisher: Altium Limited; PackageDescription: MINI SOIC, .118 x .118 x .034in, 8 Lead, .0256in Pitch; CompType: Amplifiers; RoHS: Y; PinCount: 8; DigiKeyPartNumber: LMV772MMCT-ND; Code_JEDEC: MO-187-AA; ComponentLink1Description: LMV772 Datasheet; ComponentLink1URL: http://www.national.com/ds/LM/LMV772.pdf; ComponentLink2Description: LMV772 Web Page; ComponentLink2URL: http://www.national.com/pf/LM/LMV772.html; ComponentLink3Description: MUA08A Package Page; ComponentLink3URL: http://www.national.com/packaging/folders/mua08a.html
footprint MUA08A_N (TSOP, 8-Leads, Body 3x3mm, Pitch 0.65mm, IPC Medium Density)
footprint MUA08A_L (TSOP, 8-Leads, Body 3x3mm, Pitch 0.65mm, IPC High Density)
footprint MUA08A_M (TSOP, 8-Leads, Body 3x3mm, Pitch 0.65mm, IPC Low Density)
simulation model LMV771 (SUBCKT)
pins on every part: 4 V- (power), 8 V+ (power)
part A pins: 1 OUTA (out), 2 INA- (in), 3 INA+ (in)
part B pins: 5 INB+ (in), 6 INB- (in), 7 OUTB (out)

## LMV774MT
designator U?
Single/Dual/Quad, Low Offset, Low Noise, RRO Operational Amplifiers; PartNumber: LMV774MT; Manufacturer: National Semiconductor; PackageTopMarking: NSZXYTT*LMV77*4MT; PowerWise: N; Published: 4-Dec-2008; LatestRevisionDate: 13-Jan-2009; LatestRevisionNote: Sim Model Added.; DatasheetVersion: Aug-2008; PackageVersion: revD, Jun-2003; PackageReference: MTC14; Publisher: Altium Limited; PackageDescription: Molded TSSOP, JEDEC, 5 x 4.4 x 0.9mm Body, 14 Lead, 0.65mm Pitch; CompType: Amplifiers; RoHS: Y; PinCount: 14; DigiKeyPartNumber: LMV774MT-ND; Code_JEDEC: MO-153-AB-1; ComponentLink1Description: LMV774 Datasheet; ComponentLink1URL: http://www.national.com/ds/LM/LMV774.pdf; ComponentLink2Description: LMV774 Web Page; ComponentLink2URL: http://www.national.com/pf/LM/LMV774.html; ComponentLink3Description: MTC14 Package Page; ComponentLink3URL: http://www.national.com/packaging/folders/mtc14.html
footprint MTC14_N (TSOP, 14-Leads, Body 5x4.4mm, Pitch 0.65mm, IPC Medium Density)
footprint MTC14_L (TSOP, 14-Leads, Body 5x4.4mm, Pitch 0.65mm, IPC High Density)
footprint MTC14_M (TSOP, 14-Leads, Body 5x4.4mm, Pitch 0.65mm, IPC Low Density)
simulation model LMV771 (SUBCKT)
pins on every part: 4 V+ (power), 11 V- (power)
part A pins: 1 OUTA (out), 2 INA- (in), 3 INA+ (in)
part B pins: 5 INB+ (in), 6 INB- (in), 7 OUTB (out)
part C pins: 8 OUTC (out), 9 INC- (in), 10 INC+ (in)
part D pins: 12 IND+ (in), 13 IND- (in), 14 OUTD (out)

## LMV791MK
designator U?
17 MHz, Low Noise, CMOS Input, 1.8V Operational Amplifiers with Shutdown; PartNumber: LMV791MK; Manufacturer: National Semiconductor; PackageTopMarking: AS1A*XTT; PowerWise: Y; Published: 4-Dec-2008; LatestRevisionDate: 13-Jan-2009; LatestRevisionNote: Sim Model Added.; DatasheetVersion: Jun-2008; PackageVersion: revD, Jul-2005; PackageReference: MK06A; Publisher: Altium Limited; PackageDescription: Molded TSOT, 2.97 x 1.65 x 0.87mm Body, 6 Lead, 0.95mm Pitch; CompType: Amplifiers; RoHS: Y; PinCount: 6; DigiKeyPartNumber: LMV791MKCT-ND; Code_JEDEC: MO-193-AA; Code_IPC: SOT26A-6; ComponentLink1Description: LMV791 Datasheet; ComponentLink1URL: http://www.national.com/ds/LM/LMV791.pdf; ComponentLink2Description: LMV791 Web Page; ComponentLink2URL: http://www.national.com/pf/LM/LMV791.html; ComponentLink3Description: MK06A Package Page; ComponentLink3URL: http://www.national.com/packaging/folders/mk06a.html
footprint MK06A_N (SOT23, 6-Leads, Body 3.0x1.7mm, Pitch 0.95mm, Lead Span 2.9mm, IPC Medium Density)
footprint MK06A_L (SOT23, 6-Leads, Body 3.0x1.7mm, Pitch 0.95mm, Lead Span 2.9mm, IPC High Density)
footprint MK06A_M (SOT23, 6-Leads, Body 3.0x1.7mm, Pitch 0.95mm, Lead Span 2.9mm, IPC Low Density)
simulation model LMV791 (SUBCKT)
pins: 1 OUT (out), 2 V- (power), 3 IN+ (in), 4 IN- (in), 5 EN, 6 V+ (power)

## LMV792MM
designator U?
17 MHz, Low Noise, CMOS Input, 1.8V Operational Amplifiers with Shutdown; PartNumber: LMV792MM; Manufacturer: National Semiconductor; PackageTopMarking: ZXTT*AX2A; PowerWise: Y; Published: 4-Dec-2008; LatestRevisionDate: 13-Jan-2009; LatestRevisionNote: Sim Model Added.; DatasheetVersion: Jun-2008; PackageVersion: revB, Jul-2003; PackageReference: MUB10A; Publisher: Altium Limited; PackageDescription: Mini-SO, Molded, .118 x .118 x .034in Body, 10 Lead, .0197in Pitch; CompType: Amplifiers; RoHS: Y; PinCount: 10; DigiKeyPartNumber: LMV792MMCT-ND; Code_JEDEC: MO-187-BA; ComponentLink1Description: LMV792 Datasheet; ComponentLink1URL: http://www.national.com/ds/LM/LMV792.pdf; ComponentLink2Description: LMV792 Web Page; ComponentLink2URL: http://www.national.com/pf/LM/LMV792.html; ComponentLink3Description: MUB10A Package Page; ComponentLink3URL: http://www.national.com/packaging/folders/mub10a.html
footprint MUB10A_N (TSSOP, 10-Leads, Body 3x3mm, Pitch 0.5mm, IPC Medium Density)
footprint MUB10A_L (TSSOP, 10-Leads, Body 3x3mm, Pitch 0.5mm, IPC High Density)
footprint MUB10A_M (TSSOP, 10-Leads, Body 3x3mm, Pitch 0.5mm, IPC Low Density)
simulation model LMV792 (SUBCKT)
pins on every part: 4 V- (power), 10 V+ (power)
part A pins: 1 OUTA (out), 2 INA- (in), 3 INA+ (in), 5 ENA
part B pins: 6 ENB, 7 INB+ (in), 8 INB- (in), 9 OUTB (out)

## LMV793MA
designator U?
88 MHz, Low Noise, 1.8V CMOS Input, Decompensated Operational Amplifiers; PartNumber: LMV793MA; Manufacturer: National Semiconductor; PackageTopMarking: NSZXTT*LMV7*93MA; PowerWise: Y; Published: 4-Dec-2008; DatasheetVersion: Jun-2008; PackageVersion: revL, Sep-2006; PackageReference: M08A; Publisher: Altium Limited; PackageDescription: SOIC Narrow, 4.9 x 3.9 x 1.45mm, 8 Lead, 1.27mm Pitch; CompType: Amplifiers; RoHS: Y; PinCount: 8; DigiKeyPartNumber: LMV793MA-ND; Code_JEDEC: MS-012-AA; Code_IPC: SOIC127P600-8; ComponentLink1Description: LMV793 Datasheet; ComponentLink1URL: http://www.national.com/ds/LM/LMV793.pdf; ComponentLink2Description: LMV793 Web Page; ComponentLink2URL: http://www.national.com/pf/LM/LMV793.html; ComponentLink3Description: M08A Package Page; ComponentLink3URL: http://www.national.com/packaging/folders/m08a.html
footprint M08A_N (SOIC, 8-Leads, Body 4.9x3.9mm, Pitch 1.27mm, IPC Medium Density)
footprint M08A_L (SOIC, 8-Leads, Body 4.9x3.9mm, Pitch 1.27mm, IPC High Density)
footprint M08A_M (SOIC, 8-Leads, Body 4.9x3.9mm, Pitch 1.27mm, IPC Low Density)
pins: 1 NC, 2 IN- (in), 3 IN+ (in), 4 V- (power), 5 NC, 6 OUT (out), 7 V+ (power), 8 NC

## LMV793MF
designator U?
88 MHz, Low Noise, 1.8V CMOS Input, Decompensated Operational Amplifiers; PartNumber: LMV793MF; Manufacturer: National Semiconductor; PackageTopMarking: AS4A*XTT; PowerWise: Y; Published: 4-Dec-2008; DatasheetVersion: Jun-2008; PackageVersion: revD, Aug-2008; PackageReference: MF05A; Publisher: Altium Limited; PackageDescription: Molded SOT-23, .115 x .063 x .040 in Body, 5 Lead, .0375 in Pitch; CompType: Amplifiers; RoHS: Y; PinCount: 5; DigiKeyPartNumber: LMV793MFCT-ND; Code_IPC: SOT23-5; ComponentLink1Description: LMV793 Datasheet; ComponentLink1URL: http://www.national.com/ds/LM/LMV793.pdf; ComponentLink2Description: LMV793 Web Page; ComponentLink2URL: http://www.national.com/pf/LM/LMV793.html; ComponentLink3Description: MF05A Package Page; ComponentLink3URL: http://www.national.com/packaging/folders/mf05a.html
footprint MF05A_N (SOT23, 5-Leads, Body 2.9x1.6mm, Pitch 0.95mm, Lead Span 2.8mm, IPC Medium Density)
footprint MF05A_L (SOT23, 5-Leads, Body 2.9x1.6mm, Pitch 0.95mm, Lead Span 2.8mm, IPC High Density)
footprint MF05A_M (SOT23, 5-Leads, Body 2.9x1.6mm, Pitch 0.95mm, Lead Span 2.8mm, IPC Low Density)
pins: 1 OUT (out), 2 V- (power), 3 IN+ (in), 4 IN- (in), 5 V+ (power)

## LMV794MA
designator U?
88 MHz, Low Noise, 1.8V CMOS Input, Decompensated Operational Amplifiers; PartNumber: LMV794MA; Manufacturer: National Semiconductor; PackageTopMarking: NSZXTT*LMV7*94MA; PowerWise: Y; Published: 4-Dec-2008; DatasheetVersion: Jun-2008; PackageVersion: revL, Sep-2006; PackageReference: M08A; Publisher: Altium Limited; PackageDescription: SOIC Narrow, 4.9 x 3.9 x 1.45mm, 8 Lead, 1.27mm Pitch; CompType: Amplifiers; RoHS: Y; PinCount: 8; DigiKeyPartNumber: LMV794MA-ND; Code_JEDEC: MS-012-AA; Code_IPC: SOIC127P600-8; ComponentLink1Description: LMV794 Datasheet; ComponentLink1URL: http://www.national.com/ds/LM/LMV794.pdf; ComponentLink2Description: LMV794 Web Page; ComponentLink2URL: http://www.national.com/pf/LM/LMV794.html; ComponentLink3Description: M08A Package Page; ComponentLink3URL: http://www.national.com/packaging/folders/m08a.html
footprint M08A_N (SOIC, 8-Leads, Body 4.9x3.9mm, Pitch 1.27mm, IPC Medium Density)
footprint M08A_L (SOIC, 8-Leads, Body 4.9x3.9mm, Pitch 1.27mm, IPC High Density)
footprint M08A_M (SOIC, 8-Leads, Body 4.9x3.9mm, Pitch 1.27mm, IPC Low Density)
pins on every part: 4 V- (power), 8 V+ (power)
part A pins: 1 OUTA (out), 2 INA- (in), 3 INA+ (in)
part B pins: 5 INB+ (in), 6 INB- (in), 7 OUTB (out)

## LMV794MM
designator U?
88 MHz, Low Noise, 1.8V CMOS Input, Decompensated Operational Amplifiers; PartNumber: LMV794MM; Manufacturer: National Semiconductor; PackageTopMarking: ZXTT*AN4A; PowerWise: Y; Published: 4-Dec-2008; DatasheetVersion: Jun-2008; PackageVersion: revF, Apr-2008; PackageReference: MUA08A; Publisher: Altium Limited; PackageDescription: MINI SOIC, .118 x .118 x .034in, 8 Lead, .0256in Pitch; CompType: Amplifiers; RoHS: Y; PinCount: 8; DigiKeyPartNumber: LMV794MMCT-ND; Code_JEDEC: MO-187-AA; ComponentLink1Description: LMV794 Datasheet; ComponentLink1URL: http://www.national.com/ds/LM/LMV794.pdf; ComponentLink2Description: LMV794 Web Page; ComponentLink2URL: http://www.national.com/pf/LM/LMV794.html; ComponentLink3Description: MUA08A Package Page; ComponentLink3URL: http://www.national.com/packaging/folders/mua08a.html
footprint MUA08A_N (TSOP, 8-Leads, Body 3x3mm, Pitch 0.65mm, IPC Medium Density)
footprint MUA08A_L (TSOP, 8-Leads, Body 3x3mm, Pitch 0.65mm, IPC High Density)
footprint MUA08A_M (TSOP, 8-Leads, Body 3x3mm, Pitch 0.65mm, IPC Low Density)
pins on every part: 4 V- (power), 8 V+ (power)
part A pins: 1 OUTA (out), 2 INA- (in), 3 INA+ (in)
part B pins: 5 INB+ (in), 6 INB- (in), 7 OUTB (out)

## LMV796MF
designator U?
17 MHz, Low Noise, CMOS Input, 1.8V Operational Amplifiers; PartNumber: LMV796MF; Manufacturer: National Semiconductor; PackageTopMarking: AT3A*XTT; PowerWise: Y; Published: 4-Dec-2008; LatestRevisionDate: 13-Jan-2009; LatestRevisionNote: Sim Model Added.; DatasheetVersion: Jun-2008; PackageVersion: revD, Aug-2008; PackageReference: MF05A; Publisher: Altium Limited; PackageDescription: Molded SOT-23, .115 x .063 x .040 in Body, 5 Lead, .0375 in Pitch; CompType: Amplifiers; RoHS: Y; PinCount: 5; DigiKeyPartNumber: LMV796MFCT-ND; Code_IPC: SOT23-5; ComponentLink1Description: LMV796 Datasheet; ComponentLink1URL: http://www.national.com/ds/LM/LMV796.pdf; ComponentLink2Description: LMV796 Web Page; ComponentLink2URL: http://www.national.com/pf/LM/LMV796.html; ComponentLink3Description: MF05A Package Page; ComponentLink3URL: http://www.national.com/packaging/folders/mf05a.html
footprint MF05A_N (SOT23, 5-Leads, Body 2.9x1.6mm, Pitch 0.95mm, Lead Span 2.8mm, IPC Medium Density)
footprint MF05A_L (SOT23, 5-Leads, Body 2.9x1.6mm, Pitch 0.95mm, Lead Span 2.8mm, IPC High Density)
footprint MF05A_M (SOT23, 5-Leads, Body 2.9x1.6mm, Pitch 0.95mm, Lead Span 2.8mm, IPC Low Density)
simulation model LMV796 (SUBCKT)
pins: 1 OUT (out), 2 V- (power), 3 IN+ (in), 4 IN- (in), 5 V+ (power)

## LMV797MM
designator U?
17 MHz, Low Noise, CMOS Input, 1.8V Operational Amplifiers; PartNumber: LMV797MM; Manufacturer: National Semiconductor; PackageTopMarking: ZXTT*AU3A; PowerWise: Y; Published: 4-Dec-2008; LatestRevisionDate: 13-Jan-2009; LatestRevisionNote: Sim Model Added.; DatasheetVersion: Jun-2008; PackageVersion: revF, Apr-2008; PackageReference: MUA08A; Publisher: Altium Limited; PackageDescription: MINI SOIC, .118 x .118 x .034in, 8 Lead, .0256in Pitch; CompType: Amplifiers; RoHS: Y; PinCount: 8; DigiKeyPartNumber: LMV797MMCT-ND; Code_JEDEC: MO-187-AA; ComponentLink1Description: LMV797 Datasheet; ComponentLink1URL: http://www.national.com/ds/LM/LMV797.pdf; ComponentLink2Description: LMV797 Web Page; ComponentLink2URL: http://www.national.com/pf/LM/LMV797.html; ComponentLink3Description: MUA08A Package Page; ComponentLink3URL: http://www.national.com/packaging/folders/mua08a.html
footprint MUA08A_N (TSOP, 8-Leads, Body 3x3mm, Pitch 0.65mm, IPC Medium Density)
footprint MUA08A_L (TSOP, 8-Leads, Body 3x3mm, Pitch 0.65mm, IPC High Density)
footprint MUA08A_M (TSOP, 8-Leads, Body 3x3mm, Pitch 0.65mm, IPC Low Density)
simulation model LMV797 (SUBCKT)
pins on every part: 4 V- (power), 8 V+ (power)
part A pins: 1 OUTA (out), 2 INA- (in), 3 INA+ (in)
part B pins: 5 INB+ (in), 6 INB- (in), 7 OUTB (out)

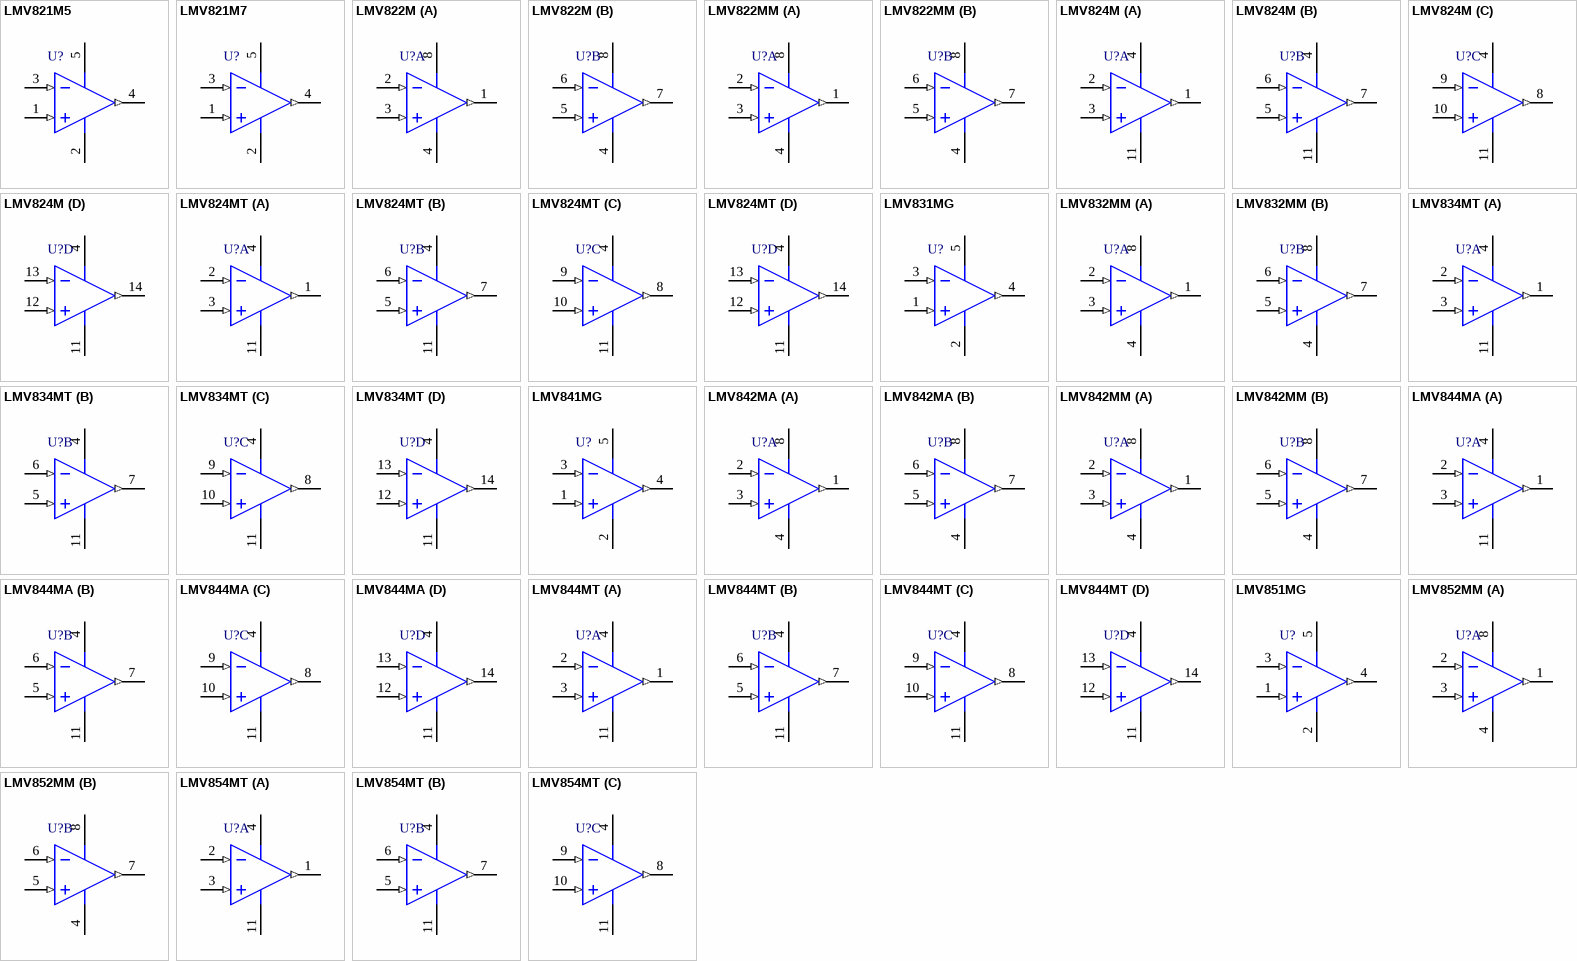
[diagram p36: symbols LMV821M5 to LMV854MT]

## LMV821M5
designator U?
5MHz, Low Voltage, Low Power, RRO, 5 MHz Op Amps; PartNumber: LMV821M5; Manufacturer: National Semiconductor; CompType: Amplifiers; PackageTopMarking: A14*XTT; PowerWise: N; Published: 4-Dec-2008; LatestRevisionDate: 13-Jan-2009; LatestRevisionNote: Sim Model Added.; DatasheetVersion: Nov-2003; PackageVersion: revD, Aug-2008; PackageReference: MF05A; Publisher: Altium Limited; PackageDescription: Molded SOT-23, .115 x .063 x .040 in Body, 5 Lead, .0375 in Pitch; RoHS: O; PinCount: 5; DigiKeyPartNumber: LMV821M5CT-ND; Code_IPC: SOT23-5; ComponentLink1Description: LMV821 Datasheet; ComponentLink1URL: http://www.national.com/ds/LM/LMV821.pdf; ComponentLink2Description: LMV821 Web Page; ComponentLink2URL: http://www.national.com/pf/LM/LMV821.html; ComponentLink3Description: MF05A Package Page; ComponentLink3URL: http://www.national.com/packaging/folders/mf05a.html
footprint MF05A_N (SOT23, 5-Leads, Body 2.9x1.6mm, Pitch 0.95mm, Lead Span 2.8mm, IPC Medium Density)
footprint MF05A_L (SOT23, 5-Leads, Body 2.9x1.6mm, Pitch 0.95mm, Lead Span 2.8mm, IPC High Density)
footprint MF05A_M (SOT23, 5-Leads, Body 2.9x1.6mm, Pitch 0.95mm, Lead Span 2.8mm, IPC Low Density)
simulation model LMV821 (SUBCKT)
pins: 1 IN+ (in), 2 V- (power), 3 IN- (in), 4 OUT (out), 5 V+ (power)

## LMV821M7
designator U?
5MHz, Low Voltage, Low Power, RRO, 5 MHz Op Amps; PartNumber: LMV821M7; Manufacturer: National Semiconductor; CompType: Amplifiers; PackageTopMarking: A15*XTT; PowerWise: N; Published: 4-Dec-2008; LatestRevisionDate: 13-Jan-2009; LatestRevisionNote: Sim Model Added.; DatasheetVersion: Nov-2003; PackageVersion: revD, Jun-2007; PackageReference: MAA05A; Publisher: Altium Limited; PackageDescription: Molded SC-70, 2 x 1.25 x .9mm, 5 Lead, 0.65mm Pitch; RoHS: O; PinCount: 5; DigiKeyPartNumber: LMV821M7CT-ND; Code_JEITA: SC-88A; Code_JEDEC: MO-203-AA; Code_IPC: SOT353-5; ComponentLink1Description: LMV821 Datasheet; ComponentLink1URL: http://www.national.com/ds/LM/LMV821.pdf; ComponentLink2Description: LMV821 Web Page; ComponentLink2URL: http://www.national.com/pf/LM/LMV821.html; ComponentLink3Description: MAA05A Package Page; ComponentLink3URL: http://www.national.com/packaging/folders/maa05a.html
footprint MAA05A_N (SOT353, 5-Leads, Body 2x1.3mm, Pitch 0.65mm, Lead Span 2.1mm, IPC Medium Density)
footprint MAA05A_L (SOT353, 5-Leads, Body 2x1.3mm, Pitch 0.65mm, Lead Span 2.1mm, IPC High Density)
footprint MAA05A_M (SOT353, 5-Leads, Body 2x1.3mm, Pitch 0.65mm, Lead Span 2.1mm, IPC Low Density)
simulation model LMV821 (SUBCKT)
pins: 1 IN+ (in), 2 V- (power), 3 IN- (in), 4 OUT (out), 5 V+ (power)